# Altium footprint library QFN28 5x5mm Pitch=0.5mm ThPad=3.15x3.15mm.PcbLib: 1 footprints
Each footprint in its own frame and in the unit in brackets; x right, y up, seen from the top. Pads: shape width x height; smd on the part's side, far side on the other; paste and mask are expansions set on the pad; w line width, h text height; cw(c..) or ccw(c..) is an arc to the next point about the centre after c.
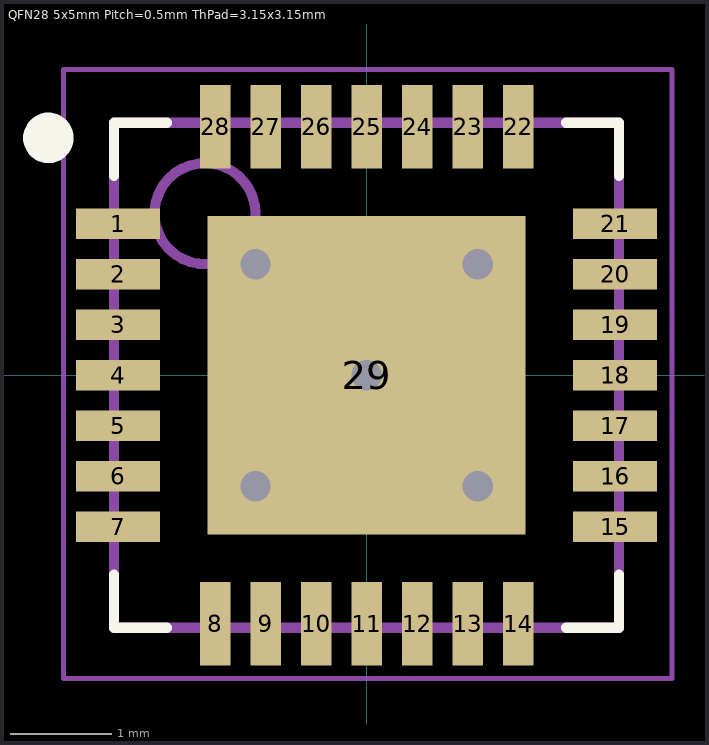
[diagram p0: the footprint, top view; thin cyan lines are the x and y axes]

## QFN28 5x5mm Pitch=0.5mm ThPad=3.15x3.15mm [mm]
height 0.9
pads (29):
  rect 0.83x0.3 smd: 1(-2.46,1.5) 2(-2.46,1) 3(-2.46,0.5) 4(-2.46,0) 5(-2.46,-0.5) 6(-2.46,-1) 7(-2.46,-1.5) 15(2.46,-1.5) 16(2.46,-1) 17(2.46,-0.5) 18(2.46,0) 19(2.46,0.5) 20(2.46,1) 21(2.46,1.5)
  rect 0.3x0.83 smd: 8(-1.5,-2.46) 9(-1,-2.46) 10(-0.5,-2.46) 11(0,-2.46) 12(0.5,-2.46) 13(1,-2.46) 14(1.5,-2.46) 22(1.5,2.46) 23(1,2.46) 24(0.5,2.46) 25(0,2.46) 26(-0.5,2.46) 27(-1,2.46) 28(-1.5,2.46)
  rect 3.15x3.15 smd: 29(0,0)
via 1.1,-1.1 diameter 0.7 hole 0.3
via -1.1,-1.1 diameter 0.7 hole 0.3
via 0,0 diameter 0.7 hole 0.3
via 1.1,1.1 diameter 0.7 hole 0.3
via -1.1,1.1 diameter 0.7 hole 0.3
Top Overlay:
  circle w0.25: c-3.15,2.35 r0.125
  lines w0.1: -2.5,-1.975 -2.5,-2.5 -1.975,-2.5 ; -2.5,1.975 -2.5,2.5 -1.975,2.5 ; 1.975,-2.5 2.5,-2.5 2.5,-1.975 ; 1.975,2.5 2.5,2.5 2.5,1.975
Mechanical 13:
  circle w0.1: c-1.6,1.6 r0.5
  lines w0.1: -2.5,-2.5 2.5,-2.5 2.5,2.5 -2.5,2.5 -2.5,-2.5
Mechanical 15:
  lines w0.05: -3,-3 3.025,-3 3.025,3.025 -3,3.025 -3,-3
  lines w0.1: -0.5,0 0.5,0 ; 0,-0.5 0,0.5
3D body: height 0.9, standoff 0.05, extent -2.5,-2.5 2.5,2.5